# Altium schematic symbol library conn_optic.SchLib: 1 symbol
Pins are listed as number, name and electrical type; pins without a type are passive.

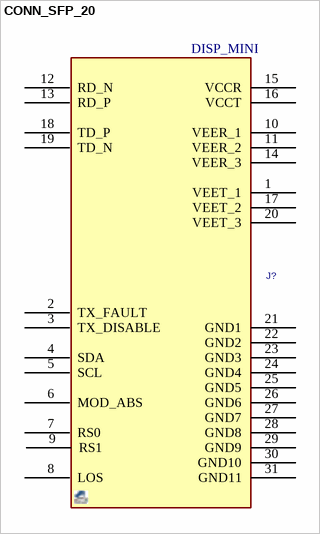
[diagram p0: symbol CONN_SFP_20]

## CONN_SFP_20
designator J?, comment DISP_MINI
CONN, SFP PLUS (SFP+) RCPT 20POS R/A GOLD SMD; MANF: Molex; MANF_P#: 74441-0010; PARAM: optic fiber, SFP+; PRICE: 5.7$; VALUE: DISP_MINI
footprint SFP_20P (SFP Conn, MOLEX, 74441-0010, 74737-0010)
pins: 1 VEET_1, 2 TX_FAULT, 3 TX_DISABLE, 4 SDA, 5 SCL, 6 MOD_ABS, 7 RS0, 8 LOS, 9 RS1, 10 VEER_1, 11 VEER_2, 12 RD_N, 13 RD_P, 14 VEER_3, 15 VCCR, 16 VCCT, 17 VEET_2, 18 TD_P, 19 TD_N, 20 VEET_3, 21 GND1, 22 GND2, 23 GND3, 24 GND4, 25 GND5, 26 GND6, 27 GND7, 28 GND8, 29 GND9, 30 GND10, 31 GND11